# Altium footprint library 5-146130-7.PcbLib: 5 footprints
Each footprint in its own frame and in the unit in brackets; x right, y up, seen from the top. Pads: shape width x height; smd on the part's side, far side on the other; paste and mask are expansions set on the pad; w line width, h text height; cw(c..) or ccw(c..) is an arc to the next point about the centre after c.
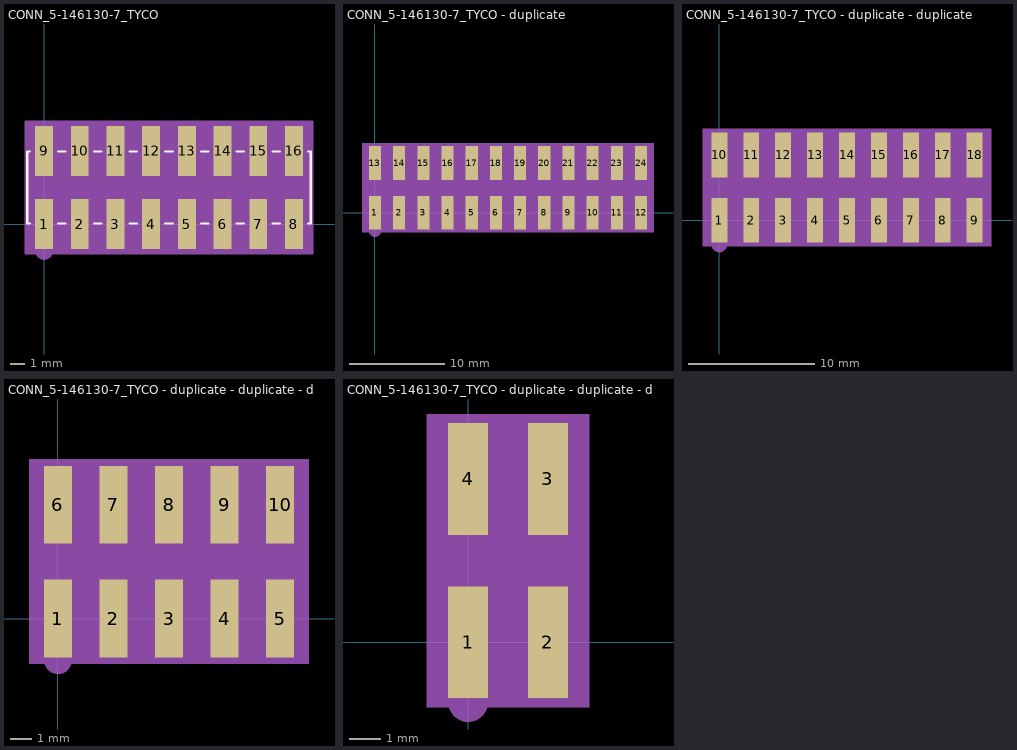
[diagram p0: the footprints below, top view; thin cyan lines are the x and y axes]

## CONN_5-146130-7_TYCO [mm]
pads (16):
  rect 1.27x3.56 smd mask+0.102: 1(0,0) 2(2.54,0) 3(5.08,0) 4(7.62,0) 5(10.16,0) 6(12.7,0) 7(15.24,0) 8(17.78,0) 9(0,5.207) 10(2.54,5.207) 11(5.08,5.207) 12(7.62,5.207) 13(10.16,5.207) 14(12.7,5.207) 15(15.24,5.207) 16(17.78,5.207)
Top Overlay:
  lines w0.152: -1.006,0.038 -1.194,0.038 -1.194,5.169 -1.006,5.169 ; 1.006,0.038 1.534,0.038 ; 1.006,5.169 1.534,5.169 ; 3.546,0.038 4.074,0.038 ; 3.546,5.169 4.074,5.169 ; 6.086,0.038 6.614,0.038 ; 6.086,5.169 6.614,5.169 ; 8.626,0.038 9.154,0.038 ; 8.626,5.169 9.154,5.169 ; 11.166,0.038 11.694,0.038 ; 11.166,5.169 11.694,5.169 ; 13.706,0.038 14.234,0.038 ; 13.706,5.169 14.234,5.169 ; 16.246,0.038 16.774,0.038 ; 16.246,5.169 16.774,5.169 ; 18.786,0.038 18.974,0.038 18.974,5.169 18.786,5.169
Bottom Overlay:
  circle w0.508: c0,-1.905 r0.381
Mechanical 13:
  circle w0.508: c0,-1.905 r0.381
  lines w0.025: -1.067,0.165 18.847,0.165 18.847,5.042 -1.067,5.042 -1.067,0.165
Mechanical 15:
  region: 19.101,7.277 -1.321,7.277 -1.321,-2.07 19.101,-2.07
  lines w0.152: -1.321,-2.07 -1.321,7.277 19.101,7.277 19.101,-2.07 -1.321,-2.07
3D body: height 0.25, standoff 0, extent 0,0 0.254,0.254

## CONN_5-146130-7_TYCO - duplicate [mm]
pads (24):
  rect 1.27x3.56 smd mask+0.102: 1(0,0) 2(2.54,0) 3(5.08,0) 4(7.62,0) 5(10.16,0) 6(12.7,0) 7(15.24,0) 8(17.78,0) 9(20.32,0) 10(22.86,0) 11(25.4,0) 12(27.94,0) 13(0,5.207) 14(2.54,5.207) 15(5.08,5.207) 16(7.62,5.207) 17(10.16,5.207) 18(12.7,5.207) 19(15.24,5.207) 20(17.78,5.207) 21(20.32,5.207) 22(22.86,5.207) 23(25.4,5.207) 24(27.94,5.207)
Bottom Overlay:
  circle w0.508: c0,-1.905 r0.381
Mechanical 13:
  circle w0.508: c0,-1.905 r0.381
Mechanical 15:
  region: 29.261,7.277 -1.321,7.277 -1.321,-2.07 29.261,-2.07
3D body: height 0.25, standoff 0, extent 0,0 0.254,0.254

## CONN_5-146130-7_TYCO - duplicate - duplicate [mm]
pads (18):
  rect 1.27x3.56 smd mask+0.102: 1(0,0) 2(2.54,0) 3(5.08,0) 4(7.62,0) 5(10.16,0) 6(12.7,0) 7(15.24,0) 8(17.78,0) 9(20.32,0) 10(0,5.207) 11(2.54,5.207) 12(5.08,5.207) 13(7.62,5.207) 14(10.16,5.207) 15(12.7,5.207) 16(15.24,5.207) 17(17.78,5.207) 18(20.32,5.207)
Bottom Overlay:
  circle w0.508: c0,-1.905 r0.381
Mechanical 13:
  circle w0.508: c0,-1.905 r0.381
Mechanical 15:
  region: 21.641,7.277 -1.321,7.277 -1.321,-2.07 21.641,-2.07
3D body: height 0.25, standoff 0, extent 0,0 0.254,0.254

## CONN_5-146130-7_TYCO - duplicate - duplicate - duplicate [mm]
pads (10):
  rect 1.27x3.56 smd mask+0.102: 1(0,0) 2(2.54,0) 3(5.08,0) 4(7.62,0) 5(10.16,0) 6(0,5.207) 7(2.54,5.207) 8(5.08,5.207) 9(7.62,5.207) 10(10.16,5.207)
Bottom Overlay:
  circle w0.508: c0,-1.905 r0.381
Mechanical 13:
  circle w0.508: c0,-1.905 r0.381
Mechanical 15:
  region: 11.481,7.277 -1.321,7.277 -1.321,-2.07 11.481,-2.07
3D body: height 0.25, standoff 0, extent 0,0 0.254,0.254

## CONN_5-146130-7_TYCO - duplicate - duplicate - duplicate - duplicate [mm]
pads (4):
  rect 1.27x3.56 smd mask+0.102: 1(0,0) 2(2.54,0) 3(2.54,5.207) 4(0,5.207)
Bottom Overlay:
  circle w0.508: c0,-1.905 r0.381
Mechanical 13:
  circle w0.508: c0,-1.905 r0.381
Mechanical 15:
  region: 3.861,7.277 -1.321,7.277 -1.321,-2.07 3.861,-2.07
3D body: height 0.25, standoff 0, extent 0,0 0.254,0.254